# EAGLE library part DMMT5401 (library HyTechDevices)
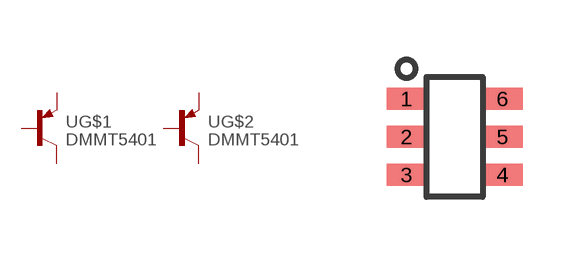
[diagram p110: symbol with the pads of SOT26; footprint SOT26]

Designator prefix -; gates G$1=PNP_BJT G$2=PNP_BJT

## DMMT5401  [SOT26]
1  G$1:C  pas
2  G$1:B  pas
3  G$2:B  pas
4  G$2:C  pas
5  G$2:E  pas
6  G$1:E  pas

## Footprint SOT26 (pad centres in mm)
smd 1 x 0.55: 1 -1.2,0.95; 2 -1.2,0; 3 -1.2,-0.95; 4 1.2,-0.95; 5 1.2,0; 6 1.2,0.95